# EAGLE library part CURRENT_MONITOR (library LARS_409_MC)
Check prices <https://pricing.snapeda.com/parts/INA181A3IDBVR/Texas%20Instruments/view-part?ref=eda>
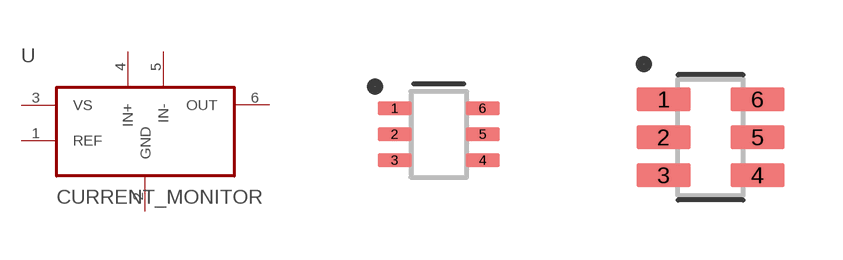
[diagram p15: symbol with the pads of PDSO; footprints PDSO, SOT23-6]

Designator prefix U

## CURRENT_MONITORINA199  [PDSO]
1  REF  in
2  GND  pwr
3  VS
4  IN+  in
5  IN-  in
6  OUT  out

## CURRENT_MONITORINA181A3  [SOT23-6]
1  OUT  out
2  GND  pwr
3  IN+  in
4  IN-  in
5  REF  in
6  VS

## Footprint PDSO (pad centres in mm)
6-SOT23, 0.65 mm pitch, 2.10 mm span, 2.00 X 1.25 X 1.10 mm body 6-pin SOT23 package with 0.65 mm pitch, 2.10 mm span with body size 2.00 X 1.25 X 1.10 mm
smd 0.85 x 0.35: 1 -1.1,0.65; 2 -1.1,0; 3 -1.1,-0.65; 4 1.1,-0.65; 5 1.1,0; 6 1.1,0.65

## Footprint SOT23-6 (pad centres in mm)
6-SOT23, 0.95 mm pitch, 2.40 mm span, 2.90 X 1.60 X 1.45 mm body 6-pin SOT23 package with 0.95 mm pitch, 2.40 mm span with body size 2.90 X 1.60 X 1.45 mm
smd 1.36 x 0.6: 1 -1.175,0.95; 2 -1.175,0; 3 -1.175,-0.95; 4 1.175,-0.95; 5 1.175,0; 6 1.175,0.95